# Altium schematic symbol library WR-MJ.SchLib: 1 symbol
Pins are listed as number, name and electrical type; pins without a type are passive.

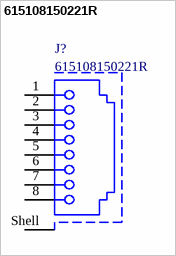
[diagram p0: symbol 615108150221R]

## 615108150221R
designator J?
WR-MJ Modular Jack THR Horizontal Mid-Mount Shielded 8P8C Tab Down; Manufacturer: Wurth Elektronik; Insulation Resistance: 1000MΩ; Contact Resistance: 20mΩ; LED: No; Number of Ports: 1; Rated Current: 1.5A; Shielding: Yes; Working Voltage: 125V (AC); Withstanding Voltage: 1000V (AC); Manufacturer Part Number: 615108150221R; Category: Input/Output Connector; Match Code: WR-MJ; ComponentLink1Description: Website Link; ComponentLink1URL: https://www.we-online.com/redexpert/article/615108150221R?ad; ComponentLink2Description: Datasheet Link; ComponentLink2URL: https://www.we-online.com/redexpert/spec/615108150221R?ad; Mount: Surface Mount; Min Operating Temperature: -40°C; Max Operating Temperature: 85°C; Packaging: Tape and Reel; Number of Pins: 8P8C; Orientation: Horizontal
footprint 615108150221R (ModularJack_8P8C_THR_Horizontal_Shielded_Tab Down_UltraLowProfile)
pins: 1, 2, 3, 4, 5, 6, 7, 8, Shell